# EAGLE library part LTC6360 (library MDB_HOMEBAK)
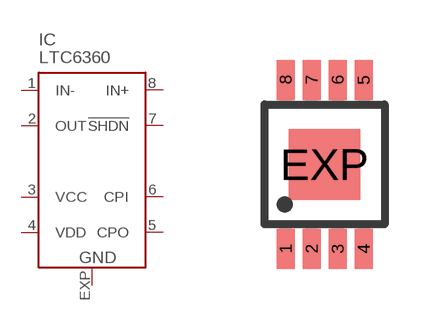
[diagram p38: symbol with the pads of MSOP8-EXP; footprint MSOP8-EXP]

Designator prefix IC

## LTC6360MSOP  [MSOP8-EXP]
1  IN-
2  OUT
3  VCC
4  VDD
5  CPO
6  CPI
7  !SHDN
8  IN+
EXP  GND

## Footprint MSOP8-EXP (pad centres in mm)
Micro Small Outline Package Grid .65mm
smd 0.45 x 1: 1 -0.975,-2.115; 2 -0.325,-2.115; 3 0.325,-2.115; 4 0.975,-2.115; 5 0.975,2.115; 6 0.325,2.115; 7 -0.325,2.115; 8 -0.975,2.115
smd 1.78 x 1.78: EXP 0,0